# Altium footprint library Ctrl_FOC1.PcbLib: 35 footprints (part 3 of 3)
Each footprint in its own frame and in the unit in brackets; x right, y up, seen from the top. Pads: shape width x height; smd on the part's side, far side on the other; paste and mask are expansions set on the pad; w line width, h text height; cw(c..) or ccw(c..) is an arc to the next point about the centre after c.
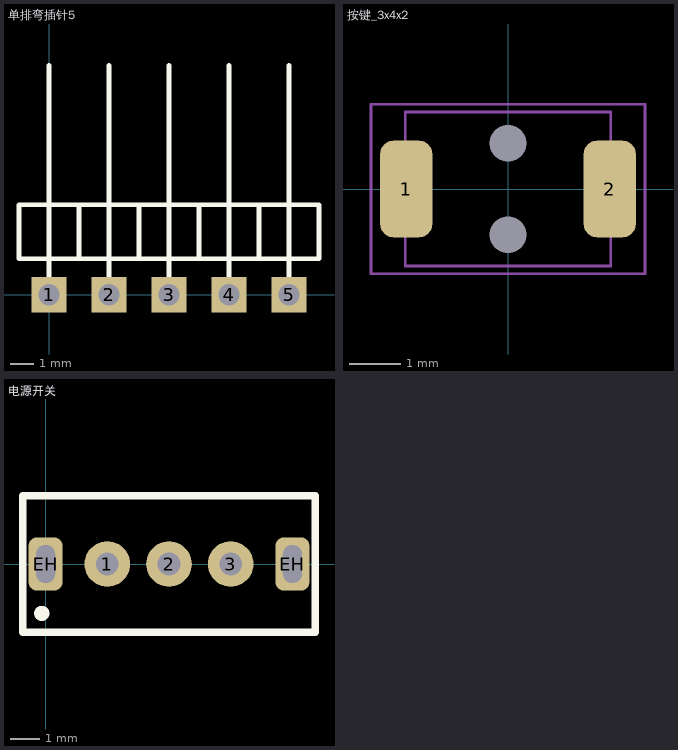
[diagram p2: the footprints below, top view; thin cyan lines are the x and y axes]

## 单排弯插针5 [mm]
height 0.8
pads (5):
  rect 1.5x1.5 hole 0.9: 1(0,0) 2(2.54,0) 3(5.08,0) 4(7.62,0) 5(10.16,0)
Top Overlay:
  lines w0.203: 0,0.025 0,9.708 ; 2.54,0.025 2.54,9.708 ; 5.08,0.025 5.08,9.708 ; 7.62,0.025 7.62,9.708 ; 10.16,0.025 10.16,9.708 ; 1.27,1.524 1.27,3.81 ; 1.27,1.524 -1.27,1.524 -1.27,3.81 1.27,3.81 ; 1.27,1.524 3.81,1.524 ; 1.27,3.81 3.81,3.81 ; 3.81,1.524 3.81,3.81 ; 3.81,1.524 6.35,1.524 ; 3.81,3.81 6.35,3.81 ; 6.35,1.524 6.35,3.81 ; 6.35,1.524 8.89,1.524 ; 6.35,3.81 8.89,3.81 ; 8.89,1.524 8.89,3.81 ; 8.89,1.524 11.43,1.524 11.43,3.81 8.89,3.81
3D body "User Library-Header_Male_RA_Low_1Pin.STEP": height 2.51, standoff -3, extent -1.27,-0.32 1.27,9.81
3D body "User Library-Header_Male_RA_Low_1Pin.STEP": height 2.51, standoff -3, extent 1.27,-0.32 3.81,9.81
3D body "User Library-Header_Male_RA_Low_1Pin.STEP": height 2.51, standoff -3, extent 3.81,-0.32 6.35,9.81
3D body "User Library-Header_Male_RA_Low_1Pin.STEP": height 2.51, standoff -3, extent 6.35,-0.32 8.89,9.81
3D body "User Library-Header_Male_RA_Low_1Pin.STEP": height 2.51, standoff -3, extent 8.89,-0.32 11.43,9.81

## 按键_3x4x2 [mil]
height 78.74
pads (4):
  round 0 hole 28: 0(0,-35) 0(0,35)
  rrect50% 40x74 smd: 1(-78,0) 2(78,0)
Mechanical 13:
  lines w2: -78.73,-59.05 78.75,-59.05 78.75,59.06 -78.74,59.06 -78.74,-59.06
Mechanical 14:
  lines w2: -105,-65 -105,65 105,65 105,-65 -105,-65
3D body "20041.stp": height 62.99, standoff 0, extent -78.74,-49.21 78.75,49.22

## 电源开关 [mil]
height 31.5
pads (5):
  round 60 hole 30: 1(81.25,0) 2(162.5,0) 3(243.75,0)
  rrect50% 45x70 hole 50 slot 25 at 0 deg: EH(0,0) EH(325,0)
Top Overlay:
  circle w10: c-5,-65 r5
  lines w10: -30,-90 -30,90 355,90 355,-90 -30,-90
3D body "User Library-MiniSwitch-2.STEP": height 342.52, standoff -110.24, extent -6.79,-88.58 331.79,88.59